# Altium footprint library tinyusbboard.PcbLib: 5 footprints
Each footprint in its own frame and in the unit in brackets; x right, y up, seen from the top. Pads: shape width x height; smd on the part's side, far side on the other; paste and mask are expansions set on the pad; w line width, h text height; cw(c..) or ccw(c..) is an arc to the next point about the centre after c.
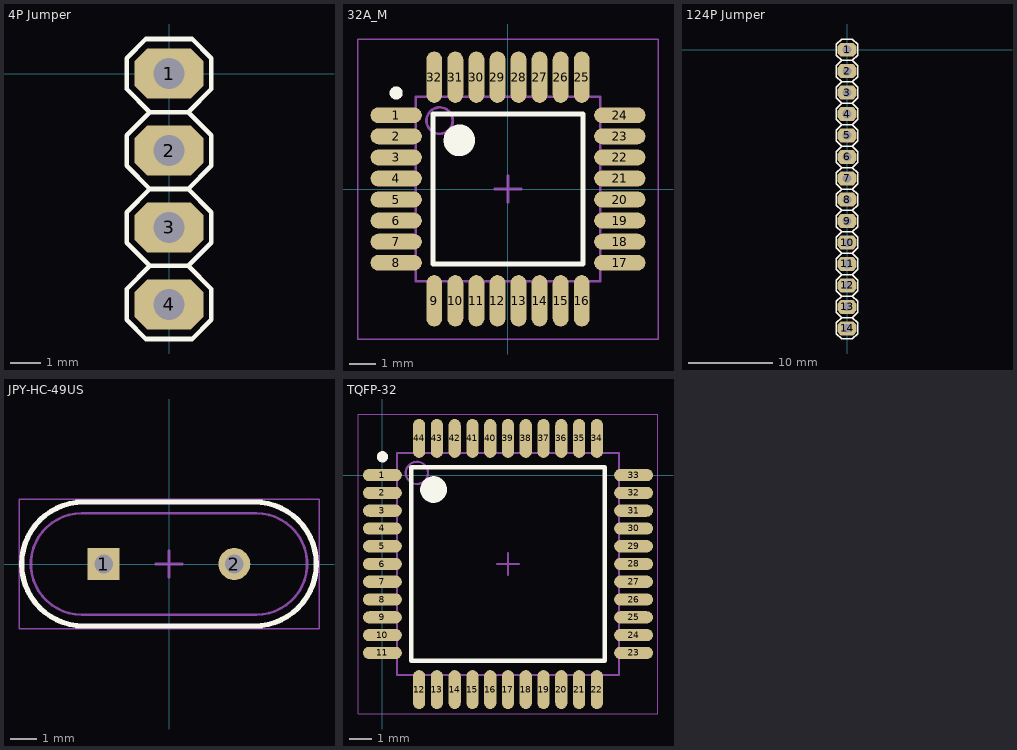
[diagram p0: the footprints below, top view; thin cyan lines are the x and y axes]

## 4P Jumper [mil]
pads (4):
  oct 90x65 hole 40: 1(0,0) 2(0,-100) 3(0,-200) 4(0,-300)
Top Overlay:
  lines w6: -25,-250 25,-250 ; -25,-250 -55,-220 -55,-180 -25,-150 ; -25,-250 -55,-280 -55,-320 -30,-345 30,-345 55,-320 55,-280 25,-250 ; -25,-150 25,-150 ; -25,-150 -55,-120 -55,-80 -25,-50 ; -25,-50 25,-50 ; -25,-50 -55,-20 -55,20 -30,45 30,45 55,20 55,-20 25,-50 ; 25,-250 55,-220 55,-180 25,-150 ; 25,-150 55,-120 55,-80 25,-50
Mechanical 9:
  region: 10,-290 -10,-290 -10,-310 10,-310
  region: 10,10 -10,10 -10,-10 10,-10
  region: 10,-90 -10,-90 -10,-110 10,-110
  region: 10,-190 -10,-190 -10,-210 10,-210

## 32A_M [mm] "Thin QFP, 32-Leads, Body 7x7mm, Pitch 0.8mm, IPC Low Density"
height 1.2
pads (32):
  oval 1.95x0.6 smd: 1(-4.25,2.8) 2(-4.25,2) 3(-4.25,1.2) 4(-4.25,0.4) 5(-4.25,-0.4) 6(-4.25,-1.2) 7(-4.25,-2) 8(-4.25,-2.8) 17(4.25,-2.8) 18(4.25,-2) 19(4.25,-1.2) 20(4.25,-0.4) 21(4.25,0.4) 22(4.25,1.2) 23(4.25,2) 24(4.25,2.8)
  oval 0.6x1.95 smd: 9(-2.8,-4.25) 10(-2,-4.25) 11(-1.2,-4.25) 12(-0.4,-4.25) 13(0.4,-4.25) 14(1.2,-4.25) 15(2,-4.25) 16(2.8,-4.25) 25(2.8,4.25) 26(2,4.25) 27(1.2,4.25) 28(0.4,4.25) 29(-0.4,4.25) 30(-1.2,4.25) 31(-2,4.25) 32(-2.8,4.25)
Top Overlay:
  circle w0.6: c-1.85,1.85 r0.3
  circle w0.25: c-4.25,3.65 r0.125
  lines w0.2: -2.85,-2.85 2.85,-2.85 2.85,2.85 -2.85,2.85 -2.85,-2.85
Mechanical 13:
  circle w0.1: c-2.6,2.6 r0.5
  lines w0.1: -3.5,-3.5 3.5,-3.5 3.5,3.5 -3.5,3.5 -3.5,-3.5
Mechanical 15:
  lines w0.05: -5.7,-5.7 5.7,-5.7 5.7,5.7 -5.7,5.7 -5.7,-5.7
  lines w0.1: -0.5,0 0.5,0 ; 0,-0.5 0,0.5
3D body: height 1.2, standoff 0, extent -3.5,-3.5 3.5,3.5

## 124P Jumper [mil]
pads (14):
  oct 90x65 hole 40: 1(0,0) 2(0,-100) 3(0,-200) 4(0,-300) 5(0,-400) 6(0,-500) 7(0,-600) 8(0,-700) 9(0,-800) 10(0,-900) 11(0,-1000) 12(0,-1100) 13(0,-1200) 14(0,-1300)
Top Overlay:
  lines w6: -25,-1250 -50,-1275 -50,-1325 -25,-1350 25,-1350 50,-1325 50,-1275 25,-1250 ; -25,-1250 -50,-1225 -50,-1175 -25,-1150 ; -25,-1250 25,-1250 ; -25,-1150 -50,-1125 -50,-1075 -25,-1050 ; -25,-1150 25,-1150 ; -25,-1050 -50,-1025 -50,-975 -25,-950 ; -25,-1050 25,-1050 ; -25,-950 -50,-925 -50,-875 -25,-850 ; -25,-950 25,-950 ; -25,-850 -50,-825 -50,-775 -25,-750 ; -25,-850 25,-850 ; -25,-750 -50,-725 -50,-675 -25,-650 ; -25,-750 25,-750 ; -25,-650 -50,-625 -50,-575 -25,-550 ; -25,-650 25,-650 ; -25,-550 -50,-525 -50,-475 -25,-450 ; -25,-550 25,-550 ; -25,-450 -50,-425 -50,-375 -25,-350 ; -25,-450 25,-450 ; -25,-350 -50,-325 -50,-275 -25,-250 ; -25,-350 25,-350 ; -25,-250 -50,-225 -50,-175 -25,-150 ; -25,-250 25,-250 ; -25,-150 -50,-125 -50,-75 -25,-50 ; -25,-150 25,-150 ; -25,-50 -50,-25 -50,25 -25,50 25,50 50,25 50,-25 25,-50 ; -25,-50 25,-50 ; 25,-1250 50,-1225 50,-1175 25,-1150 ; 25,-1150 50,-1125 50,-1075 25,-1050 ; 25,-1050 50,-1025 50,-975 25,-950 ; 25,-950 50,-925 50,-875 25,-850 ; 25,-850 50,-825 50,-775 25,-750 ; 25,-750 50,-725 50,-675 25,-650 ; 25,-650 50,-625 50,-575 25,-550 ; 25,-550 50,-525 50,-475 25,-450 ; 25,-450 50,-425 50,-375 25,-350 ; 25,-350 50,-325 50,-275 25,-250 ; 25,-250 50,-225 50,-175 25,-150 ; 25,-150 50,-125 50,-75 25,-50
Mechanical 9:
  region: -10,-1290 10,-1290 10,-1310 -10,-1310
  region: -10,10 10,10 10,-10 -10,-10
  region: -10,-90 10,-90 10,-110 -10,-110
  region: -10,-190 10,-190 10,-210 -10,-210
  region: -10,-290 10,-290 10,-310 -10,-310
  region: -10,-390 10,-390 10,-410 -10,-410
  region: -10,-490 10,-490 10,-510 -10,-510
  region: -10,-590 10,-590 10,-610 -10,-610
  region: -10,-690 10,-690 10,-710 -10,-710
  region: -10,-790 10,-790 10,-810 -10,-810
  region: -10,-890 10,-890 10,-910 -10,-910
  region: -10,-990 10,-990 10,-1010 -10,-1010
  region: -10,-1090 10,-1090 10,-1110 -10,-1110
  region: -10,-1190 10,-1190 10,-1210 -10,-1210

## JPY-HC-49US [mm] "THD, 2-Leads, Body 11.05x4.65mm, Pitch 4.9mm"
height 3.5
pads (2):
  rect 1.2x1.2 hole 0.7: 1(-2.45,0)
  round 1.2 hole 0.7: 2(2.45,0)
Top Overlay:
  lines w0.2: -3.2,-2.325 cw(c-3.2,0) -3.2,2.325 3.2,2.325 cw(c3.2,0) 3.2,-2.325 -3.2,-2.325
Mechanical 13:
  lines w0.1: -3.277,-1.9 cw(c-3.277,0) -3.277,1.9 3.277,1.9 cw(c3.277,0) 3.277,-1.9 -3.277,-1.9 ; -3.2,-2.325 cw(c-3.2,0) -3.2,2.325 3.2,2.325 cw(c3.2,0) 3.2,-2.325 -3.2,-2.325
Mechanical 15:
  lines w0.05: -5.625,-2.425 5.625,-2.425 5.625,2.425 -5.625,2.425 -5.625,-2.425
  lines w0.1: -0.5,0 0.5,0 ; 0,-0.5 0,0.5
3D body: height 1, standoff 0, extent -5.525,-2.325 5.525,2.325
3D body: height 0, standoff -13.5, extent 2.227,-0.224 2.675,0.225
3D body: height 0, standoff -13.5, extent -2.673,-0.224 -2.225,0.225
3D body: height 3.5, standoff 0, extent -5.177,-1.901 5.177,1.901

## TQFP-32 [mm]
pads (44):
  oval 1.75x0.55 smd: 1(0,0) 2(0,-0.8) 3(0,-1.6) 4(0,-2.4) 5(0,-3.2) 6(0,-4) 7(0,-4.8) 8(0,-5.6) 9(0,-6.4) 10(0,-7.2) 11(0,-8) 23(11.3,-8) 24(11.3,-7.2) 25(11.3,-6.4) 26(11.3,-5.6) 27(11.3,-4.8) 28(11.3,-4) 29(11.3,-3.2) 30(11.3,-2.4) 31(11.3,-1.6) 32(11.3,-0.8) 33(11.3,0)
  oval 0.55x1.75 smd: 12(1.65,-9.65) 13(2.45,-9.65) 14(3.25,-9.65) 15(4.05,-9.65) 16(4.85,-9.65) 17(5.65,-9.65) 18(6.45,-9.65) 19(7.25,-9.65) 20(8.05,-9.65) 21(8.85,-9.65) 22(9.65,-9.65) 34(9.65,1.65) 35(8.85,1.65) 36(8.05,1.65) 37(7.25,1.65) 38(6.45,1.65) 39(5.65,1.65) 40(4.85,1.65) 41(4.05,1.65) 42(3.25,1.65) 43(2.45,1.65) 44(1.65,1.65)
Top Overlay:
  circle w0.25: c0,0.825 r0.125
  circle w0.6: c2.3,-0.65 r0.3
  lines w0.2: 1.3,-8.35 1.3,0.35 10,0.35 10,-8.35 1.3,-8.35
Mechanical 13:
  circle w0.1: c1.55,0.1 r0.5
  lines w0.1: 0.65,-9 0.65,1 10.65,1 10.65,-9 0.65,-9
Mechanical 15:
  lines w0.05: -1.1,-10.75 -1.1,2.75 12.4,2.75 12.4,-10.75 -1.1,-10.75
  lines w0.1: 5.15,-4 6.15,-4 ; 5.65,-4.5 5.65,-3.5
3D body: height 1.2, standoff 0, extent 0.65,-9 10.65,1